# EAGLE library part 39-30-1060 (library molex-con-39301060)
Molex Connector 39-30-1060 - Power Connector Technical Specifications: Vmax: 600V Imax: 13A Operating Temperature: -40°C to 105°C Termination style: through-hole To be used with power supply MENB1080A1251F01 Digikey: WM1353-ND Mouser: 538-39-30-1060
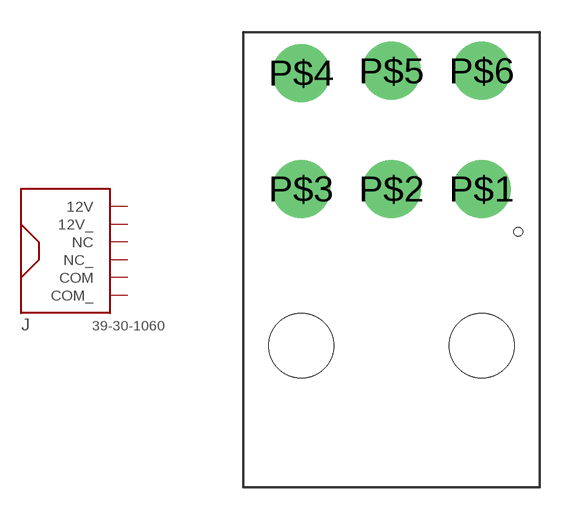
[diagram p0: symbol with the pads of 5569_6P; footprint 5569_6P]

Designator prefix J

## 39-30-1060"  [5569_6P]
P$1  12V  pwr
P$2  NC  nc
P$3  COM  pwr
P$4  12V_  pwr
P$5  NC_  nc
P$6  COM_  pwr

## Footprint 5569_6P (pad centres in mm)
5569 6-pin
drill 1.8: P$1 4.2,-5.5; P$2 0,-5.5; P$3 -4.2,-5.5; P$4 -4.2,-0.1; P$5 0,0; P$6 4.2,0
hole 3 at 4.2,-12.8
hole 3 at -4.2,-12.8